# Altium schematic symbol library TVS_DIODE (3VWM, SOT323-5).SchLib: 1 symbol
Pins are listed as number, name and electrical type; pins without a type are passive.

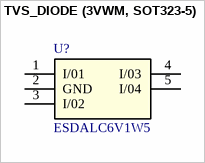
[diagram p0: symbol TVS_DIODE (3VWM, SOT323-5)]

## TVS_DIODE (3VWM, SOT323-5)
designator U?, comment ESDALC6V1W5
TVS Diode Array Uni-Directional ESDALC6V1W5 Quad, 25W, SOT-323 5-Pin; Manufacturer_Name: STMicroelectronics; Manufacturer_Part_Number: ESDALC6V1W5; Package: SOT-323-5; Datasheet: https://www.st.com/resource/en/datasheet/esdalc6v1w.pdf; Digikey_Link: https://www.digikey.it/en/products/detail/stmicroelectronics/ESDALC6V1W5/1037997?s=N4IgTCBcDaIKIGUAiBBAMgYQGwDUCMA6gKwgC6AvkA
footprint SOT65P210X110-5N
pins: 1 I/01, 2 GND, 3 I/02, 4 I/03, 5 I/04